# Altium integrated library Транзисторы.IntLib: 5 symbols
Pins are listed as number, name and electrical type; pins without a type are passive.

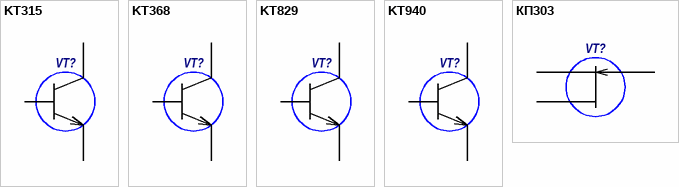
[diagram p0: symbols KT315 to КП303]

## KT315
designator VT?  (value not drawn)
Value: {Value}
footprint КT315
pins: 1, 2, 3

## KT368
designator VT?  (value not drawn)
Value: {Value}; ModifyDate: 08/05/2003 14:43:52
footprint КТ368
pins: 1, 2, 3, 4 GND (power) hidden

## KT829
designator VT?  (value not drawn)
Value: {Value}
footprint КT829
pins: 1, 2, 3

## KT940
designator VT?  (value not drawn)
Value: {Value}
footprint КT940
pins: 1, 2, 3

## КП303
designator VT?  (value not drawn)
Value: {Value}
footprint КП303
pins: 1, 2, 3, 4 GRN (power) hidden